# Altium schematic symbol library SCH - MCU - ATMEGA - MICROCHIP ATMEGA3208-XFR SSOP28.SchLib: 1 symbol
Pins are listed as number, name and electrical type; pins without a type are passive.

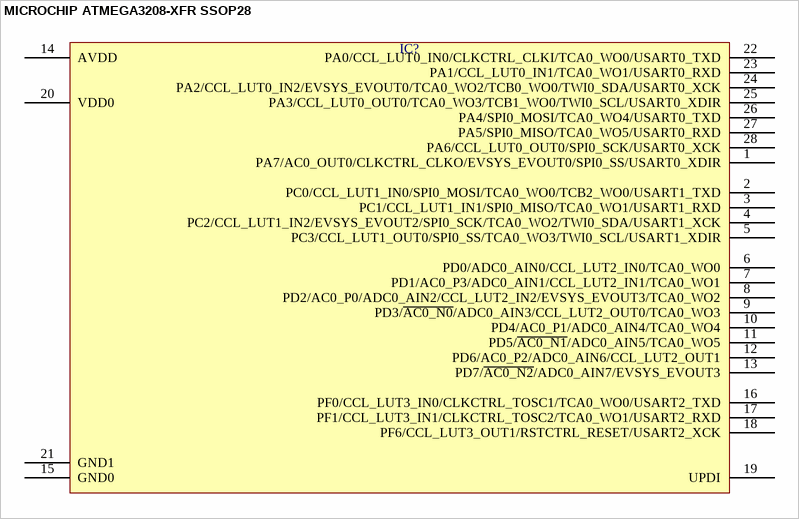
[diagram p0: symbol MICROCHIP ATMEGA3208-XFR SSOP28]

## MICROCHIP ATMEGA3208-XFR SSOP28
designator IC?  (value not drawn)
pins: 1 PA7/AC0_OUT0/CLKCTRL_CLKO/EVSYS_EVOUT0/SPI0_SS/USART0_XDIR, 2 PC0/CCL_LUT1_IN0/SPI0_MOSI/TCA0_WO0/TCB2_WO0/USART1_TXD, 3 PC1/CCL_LUT1_IN1/SPI0_MISO/TCA0_WO1/USART1_RXD, 4 PC2/CCL_LUT1_IN2/EVSYS_EVOUT2/SPI0_SCK/TCA0_WO2/TWI0_SDA/USART1_XCK, 5 PC3/CCL_LUT1_OUT0/SPI0_SS/TCA0_WO3/TWI0_SCL/USART1_XDIR, 6 PD0/ADC0_AIN0/CCL_LUT2_IN0/TCA0_WO0, 7 PD1/AC0_P3/ADC0_AIN1/CCL_LUT2_IN1/TCA0_WO1, 8 PD2/AC0_P0/ADC0_AIN2/CCL_LUT2_IN2/EVSYS_EVOUT3/TCA0_WO2, 9 PD3/~{AC0_N0}/ADC0_AIN3/CCL_LUT2_OUT0/TCA0_WO3, 10 PD4/AC0_P1/ADC0_AIN4/TCA0_WO4, 11 PD5/~{AC0_N1}/ADC0_AIN5/TCA0_WO5, 12 PD6/AC0_P2/ADC0_AIN6/CCL_LUT2_OUT1, 13 PD7/~{AC0_N2}/ADC0_AIN7/EVSYS_EVOUT3, 14 AVDD, 15 GND0, 16 PF0/CCL_LUT3_IN0/CLKCTRL_TOSC1/TCA0_WO0/USART2_TXD, 17 PF1/CCL_LUT3_IN1/CLKCTRL_TOSC2/TCA0_WO1/USART2_RXD, 18 PF6/CCL_LUT3_OUT1/RSTCTRL_RESET/USART2_XCK, 19 UPDI, 20 VDD0, 21 GND1, 22 PA0/CCL_LUT0_IN0/CLKCTRL_CLKI/TCA0_WO0/USART0_TXD, 23 PA1/CCL_LUT0_IN1/TCA0_WO1/USART0_RXD, 24 PA2/CCL_LUT0_IN2/EVSYS_EVOUT0/TCA0_WO2/TCB0_WO0/TWI0_SDA/USART0_XCK, 25 PA3/CCL_LUT0_OUT0/TCA0_WO3/TCB1_WO0/TWI0_SCL/USART0_XDIR, 26 PA4/SPI0_MOSI/TCA0_WO4/USART0_TXD, 27 PA5/SPI0_MISO/TCA0_WO5/USART0_RXD, 28 PA6/CCL_LUT0_OUT0/SPI0_SCK/USART0_XCK